# Altium footprint library Diode_Osram_Opto_LO_Q976-PS-25-0-20-R18_eec_MFG.PcbLib: 1 footprints
Each footprint in its own frame and in the unit in brackets; x right, y up, seen from the top. Pads: shape width x height; smd on the part's side, far side on the other; paste and mask are expansions set on the pad; w line width, h text height; cw(c..) or ccw(c..) is an arc to the next point about the centre after c.
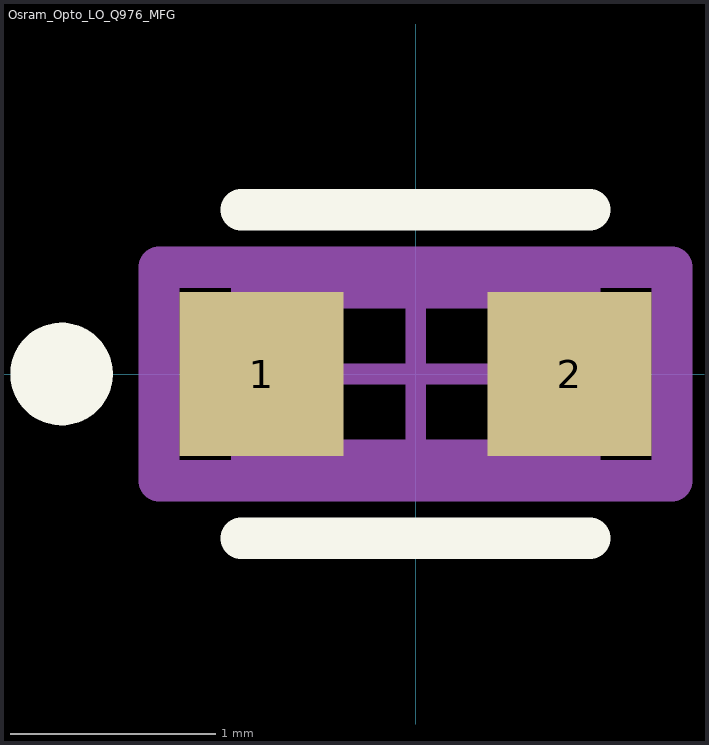
[diagram p0: the footprint, top view; thin cyan lines are the x and y axes]

## Osram_Opto_LO_Q976_MFG [mm]
pads (2):
  rect 0.8x0.8 smd paste+0 mask+0: 1(-0.75,0) 2(0.75,0)
Top Overlay:
  circle w0.25: c-1.725,0 r0.125
  lines w0.2: -0.85,-0.8 0.85,-0.8 ; -0.85,0.8 0.85,0.8
Mechanical 10:
  lines w0.2: -1.25,-0.52 1.25,-0.52 1.25,0.52 -1.25,0.52 -1.25,-0.52
  text ".Designator" at 0,0 h1
Mechanical 12:
  lines w0.2: -0.8,-0.42 0.8,-0.42 0.8,0.42 -0.8,0.42 -0.8,-0.42
Mechanical 15:
  lines w0.1: -0.5,0 0.5,0 ; 0,-0.5 0,0.5
  lines w0.2: -1.25,-0.52 1.25,-0.52 1.25,0.52 -1.25,0.52 -1.25,-0.52
3D body "Diode_Osram_Opto_LO_Q976-PS-25-0-20-R18_eec.STEP": height 0.25, standoff 0, extent -1.25,-0.52 1.25,0.52